# Altium schematic symbol library Discrete_Capacitors_Ceramic_GOST.SchLib: 4 symbols
Pins are listed as number, name and electrical type; pins without a type are passive.

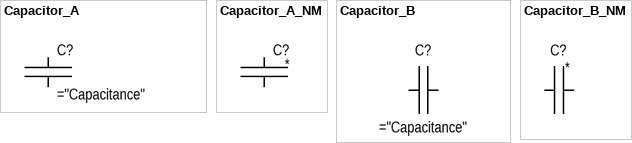
[diagram p0: symbols Capacitor_A to Capacitor_B_NM]

## Capacitor_A
designator C?
pins: 1, 2

## Capacitor_A_NM
designator C?  (no BOM)
pins: 1, 2

## Capacitor_B
designator C?
pins: 1, 2

## Capacitor_B_NM
designator C?
pins: 1, 2